# EAGLE library part OPENAG-SENSORS_T6713-5K (library PFCEDU_V3)
CO2 MODULE 5000PPM DIFFUSION Description: CO2 Sensor I²C Technical Specifications: Type: CO2 Accuracy: ±2% Output: I²C Operating Temperature: 14 ~ 140°F (-10 ~ 60°C) Voltage - Supply: 4.5 V ~ 5.5 V Current - Supply: 200mA Datasheet(s): T6713 Series Datasheet <http://www.amphenol-sensors.com/en/component/edocman/297-telaire-t6713-series-datasheet/download?Itemid=591> Telaire CO2 Module Selection Guide <http://www.amphenol-sensors.com/en/component/edocman/488-telaire-co2-module-selection-guide-single-or-dual-channel/download?Itemid=591> T67xx Appl Note <http://www.amphenol-sensors.com/en/component/edocman/332-telaire-6700-series-application-note/download?Itemid=591> Vendor(s): Digikey: 235-1374-ND <https://www.digikey.com/product-detail/en/amphenol-advanced-sensors/T6713-5K/235-1374-ND/5027892>
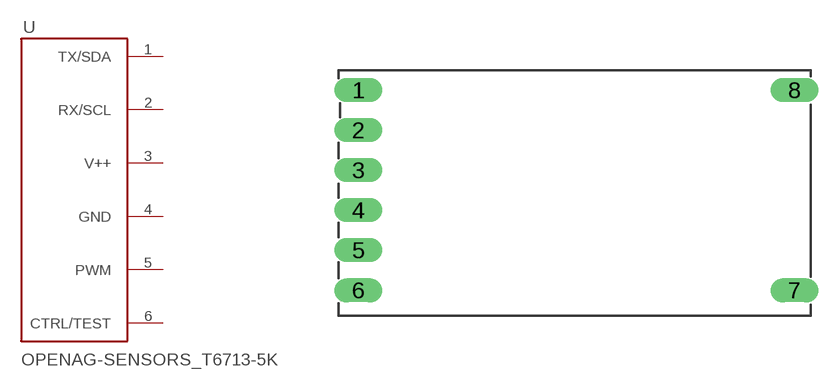
[diagram p7: symbol with the pads of OPENAG-SENSORS_T6713; footprint OPENAG-SENSORS_T6713]

Designator prefix U

## OPENAG-SENSORS_T6713-5K (MANUFACTURER: Amphenol Advanced Sensors; MPN: T6713-5K; VALUE: T6713-5K; VENDOR: Digikey; VLINK: https://www.digikey.com/product-detail/en/amphenol-advanced-sensors/T6713-5K/235-1374-ND/5027892; VPN: 235-1374-ND)  [OPENAG-SENSORS_T6713]
1  TX/SDA
2  RX/SCL
3  V++  pwr
4  GND  pwr
5  PWM
6  CTRL/TEST

## Footprint OPENAG-SENSORS_T6713 (pad centres in mm)
drill 1.016 long: 1 1.27,-1.27; 2 1.27,-3.81; 3 1.27,-6.35; 4 1.27,-8.89; 5 1.27,-11.43; 6 1.27,-13.97; 7 28.96,-13.97; 8 28.96,-1.27